# Altium schematic symbol library Term,Screw,M5,Top,Thru.Schlib: 1 symbol
Pins are listed as number, name and electrical type; pins without a type are passive.

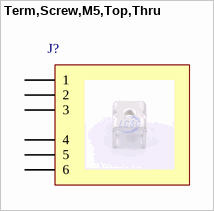
[diagram p0: symbol Term,Screw,M5,Top,Thru]

## Term,Screw,M5,Top,Thru
designator J?
pins: 1, 2, 3, 4, 5, 6